# Altium footprint library MKP1848510084K2.PcbLib: 1 footprints
Each footprint in its own frame and in the unit in brackets; x right, y up, seen from the top. Pads: shape width x height; smd on the part's side, far side on the other; paste and mask are expansions set on the pad; w line width, h text height; cw(c..) or ccw(c..) is an arc to the next point about the centre after c.
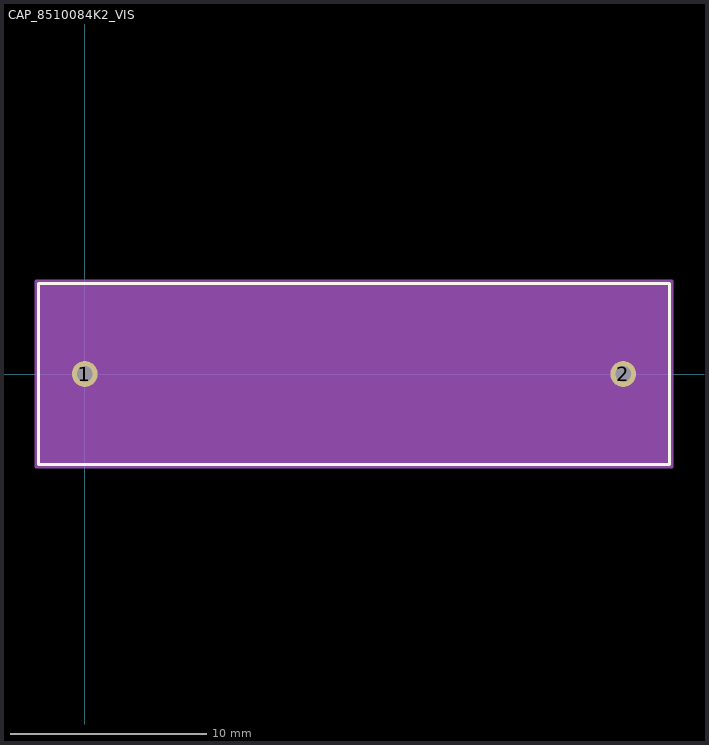
[diagram p0: the footprint, top view; thin cyan lines are the x and y axes]

## CAP_8510084K2_VIS [mil]
pads (2):
  round 52 hole 32 paste-26 mask+0: 1(0,0) 2(1083,0)
Top Overlay:
  lines w6: -93.5,-182 1176.5,-182 1176.5,182 -93.5,182 -93.5,-182
  text ".Designator" at 404,-25 h50
Mechanical 13:
  circle w1: c-68.5,0 r0
  lines w1: -88.5,-177 1171.5,-177 1171.5,177 -88.5,177 -88.5,-177
  text ".Designator" at 404,-25 h50
Mechanical 15:
  region: 1181.5,-187 -98.5,-187 -98.5,187 1181.5,187
  lines w6: -98.5,-187 -98.5,187 1181.5,187 1181.5,-187 -98.5,-187
3D body "CAP_8510084K2_VIS.step": height 752.01, standoff -165.98, extent -88.5,-177.01 1171.5,177.01